# Altium schematic symbol library IC_BD6510.SchLib: 1 symbol
Pins are listed as number, name and electrical type; pins without a type are passive.

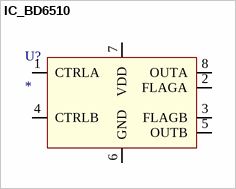
[diagram p0: symbol IC_BD6510]

## IC_BD6510
designator U?
pins: 1 CTRLA, 2 FLAGA, 3 FLAGB, 4 CTRLB, 5 OUTB, 6 GND, 7 VDD, 8 OUTA